# EAGLE library part PIC18F4480 (library lib_paul)
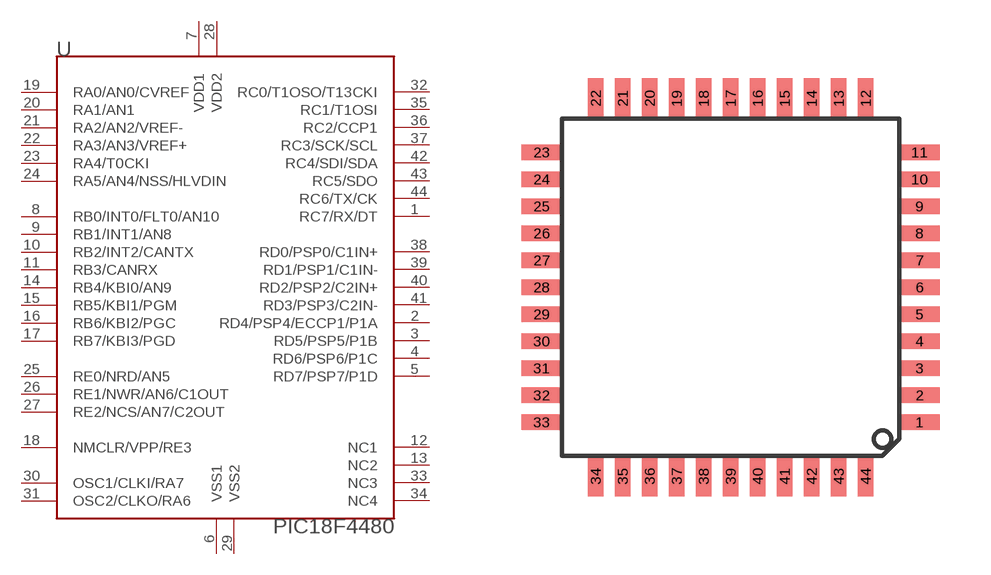
[diagram p18: symbol with the pads of TQFP44-0.8; footprint TQFP44-0.8]

Designator prefix -

## PIC18F4480  [TQFP44-0.8]
1  RC7/RX/DT
2  RD4/PSP4/ECCP1/P1A
3  RD5/PSP5/P1B
4  RD6/PSP6/P1C
5  RD7/PSP7/P1D
6  VSS1
7  VDD1
8  RB0/INT0/FLT0/AN10
9  RB1/INT1/AN8
10  RB2/INT2/CANTX
11  RB3/CANRX
12  NC1  nc
13  NC2  nc
14  RB4/KBI0/AN9
15  RB5/KBI1/PGM
16  RB6/KBI2/PGC
17  RB7/KBI3/PGD
18  NMCLR/VPP/RE3
19  RA0/AN0/CVREF
20  RA1/AN1
21  RA2/AN2/VREF-
22  RA3/AN3/VREF+
23  RA4/T0CKI
24  RA5/AN4/NSS/HLVDIN
25  RE0/NRD/AN5
26  RE1/NWR/AN6/C1OUT
27  RE2/NCS/AN7/C2OUT
28  VDD2
29  VSS2
30  OSC1/CLKI/RA7
31  OSC2/CLKO/RA6
32  RC0/T1OSO/T13CKI
33  NC3  nc
34  NC4  nc
35  RC1/T1OSI
36  RC2/CCP1
37  RC3/SCK/SCL
38  RD0/PSP0/C1IN+
39  RD1/PSP1/C1IN-
40  RD2/PSP2/C2IN+
41  RD3/PSP3/C2IN-
42  RC4/SDI/SDA
43  RC5/SDO
44  RC6/TX/CK

## Footprint TQFP44-0.8 (pad centres in mm)
smd 1.2 x 0.45: 1 5.6,-4; 2 5.6,-3.2; 3 5.6,-2.4; 4 5.6,-1.6; 5 5.6,-0.8; 6 5.6,0; 7 5.6,0.8; 8 5.6,1.6; 9 5.6,2.4; 10 5.6,3.2; 11 5.6,4; 23 -5.6,4; 24 -5.6,3.2; 25 -5.6,2.4; 26 -5.6,1.6; 27 -5.6,0.8; 28 -5.6,0; 29 -5.6,-0.8; 30 -5.6,-1.6; 31 -5.6,-2.4; 32 -5.6,-3.2; 33 -5.6,-4
smd 0.45 x 1.2: 12 4,5.6; 13 3.2,5.6; 14 2.4,5.6; 15 1.6,5.6; 16 0.8,5.6; 17 0,5.6; 18 -0.8,5.6; 19 -1.6,5.6; 20 -2.4,5.6; 21 -3.2,5.6; 22 -4,5.6; 34 -4,-5.6; 35 -3.2,-5.6; 36 -2.4,-5.6; 37 -1.6,-5.6; 38 -0.8,-5.6; 39 0,-5.6; 40 0.8,-5.6; 41 1.6,-5.6; 42 2.4,-5.6; 43 3.2,-5.6; 44 4,-5.6